# Altium footprint library BUTTON_DIP4.PcbLib: 1 footprints
Each footprint in its own frame and in the unit in brackets; x right, y up, seen from the top. Pads: shape width x height; smd on the part's side, far side on the other; paste and mask are expansions set on the pad; w line width, h text height; cw(c..) or ccw(c..) is an arc to the next point about the centre after c.
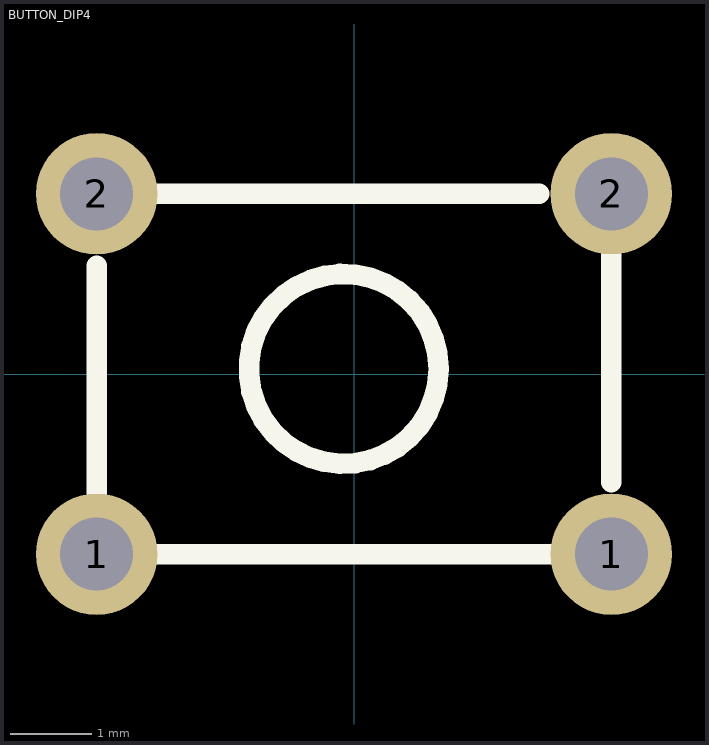
[diagram p0: the footprint, top view; thin cyan lines are the x and y axes]

## BUTTON_DIP4 [mm] "轻触开关"
pads (4):
  round 1.5 hole 0.9: 1(-3.175,-2.222) 1(3.175,-2.222) 2(-3.175,2.222) 2(3.175,2.222)
Top Overlay:
  circle w0.254: c-0.127,0.064 r1.171
  lines w0.254: -3.175,-1.46 -3.175,1.333 ; -2.413,-2.222 2.413,-2.222 ; -2.413,2.222 2.286,2.222 ; 3.175,-1.333 3.175,1.46